# EAGLE library part TLP292-4 (library MakeItLabs)
Optoisolator Transistor Output 3750Vrms 4 Channel 16-SO
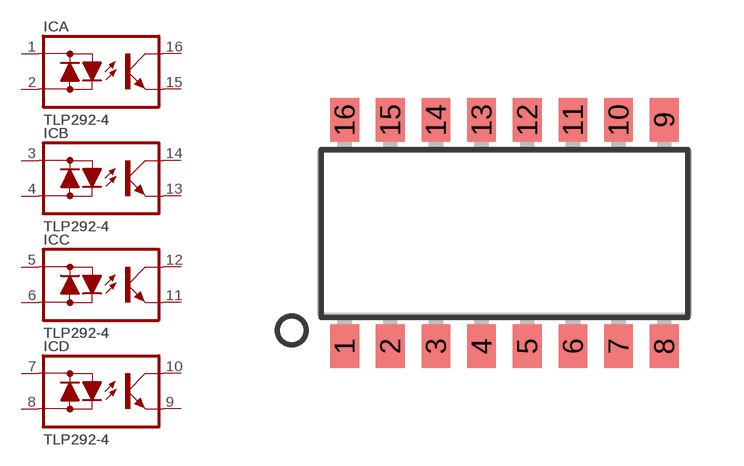
[diagram p16: symbol with the pads of SO-16; footprint SO-16]

Designator prefix IC; gates A=OPTO B=OPTO C=OPTO D=OPTO

## TLP292-4  [SO-16]
1  A:AC1  pas
2  A:AC2  pas
3  B:AC1  pas
4  B:AC2  pas
5  C:AC1  pas
6  C:AC2  pas
7  D:AC1  pas
8  D:AC2  pas
9  D:E  pas
10  D:C  pas
11  C:E  pas
12  C:C  pas
13  B:E  pas
14  B:C  pas
15  A:E  pas
16  A:C  pas

## Footprint SO-16 (pad centres in mm)
Small Outline Integrated Circuit
smd 0.8 x 1.2: 1 -4.445,-3.15; 2 -3.175,-3.15; 3 -1.905,-3.15; 4 -0.635,-3.15; 5 0.635,-3.15; 6 1.905,-3.15; 7 3.175,-3.15; 8 4.445,-3.15; 9 4.445,3.15; 10 3.175,3.15; 11 1.905,3.15; 12 0.635,3.15; 13 -0.635,3.15; 14 -1.905,3.15; 15 -3.175,3.15; 16 -4.445,3.15